# EAGLE library part ICL3221CVZ (library Intersil_By_element14_Batch_1)
RS-232 Transmitters/Receivers
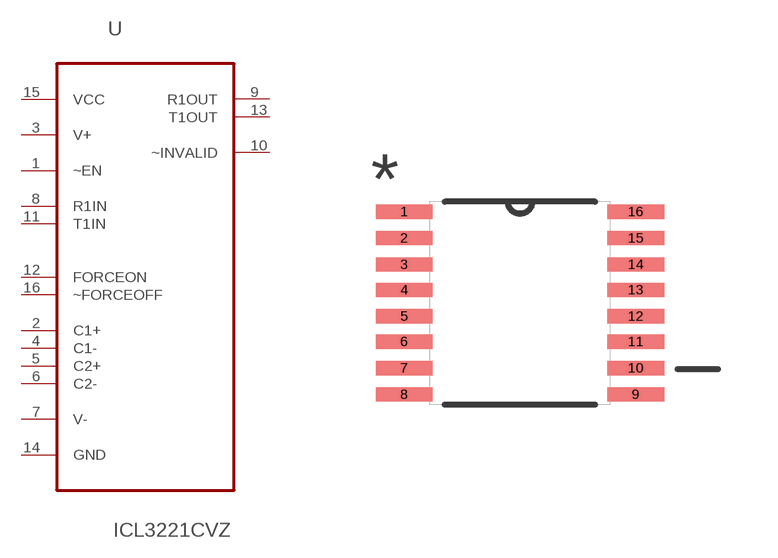
[diagram p160: symbol with the pads of SOP65P637X110-16N; footprint SOP65P637X110-16N]

Designator prefix U

## ICL3221CVZ (MPN: ICL3221CVZ; OC_FARNELL: 1561962; OC_NEWARK: 11J8843; PACKAGE: TSSOP-16; SUPPLIER: INTERSIL)  [SOP65P637X110-16N]
1  ~EN  in
2  C1+  pas
3  V+  pwr
4  C1-  pas
5  C2+  pas
6  C2-  pas
7  V-  pwr
8  R1IN  in
9  R1OUT  out
10  ~INVALID  out
11  T1IN  in
12  FORCEON  in
13  T1OUT  out
14  GND  pas
15  VCC  pwr
16  ~FORCEOFF  pas

## Footprint SOP65P637X110-16N (pad centres in mm)
smd 1.422 x 0.356: 1 -2.896,2.286; 2 -2.896,1.626; 3 -2.896,0.965; 4 -2.896,0.33; 5 -2.896,-0.33; 6 -2.896,-0.965; 7 -2.896,-1.626; 8 -2.896,-2.286; 9 2.896,-2.286; 10 2.896,-1.626; 11 2.896,-0.965; 12 2.896,-0.33; 13 2.896,0.33; 14 2.896,0.965; 15 2.896,1.626; 16 2.896,2.286